# EAGLE library part MPU6000 (library MrSwirlyEyes)
MPU 6000 IMU (6DOF) The sampling rate on this IMU is slower than in the MPU6500, but it's noise sensitivity is much lower.
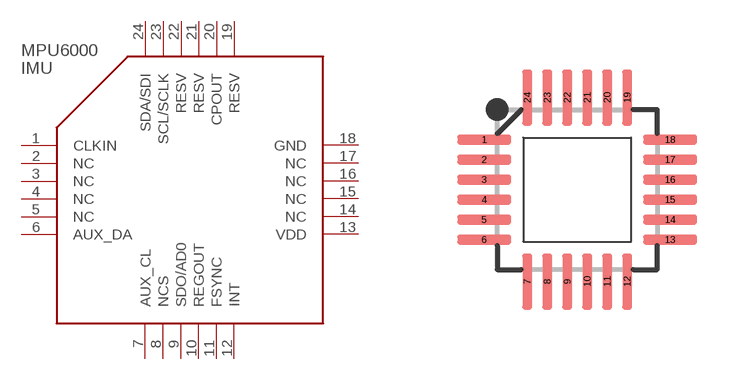
[diagram p18: symbol with the pads of MPU6000-QFN24; footprint MPU6000-QFN24]

Designator prefix IMU

## MPU6000-QFN24 (CREATOR: Kenmei; DATASHEET: http://store.invensense.com/datasheets/invensense/MPU-6050_DataSheet_V3%204.pdf; DIST: Digikey; DISTLINK: https://www.digikey.com/product-detail/en/tdk-invensense/MPU-6000/1428-1005-1-ND/4038006; DISTPN: 1428-1005-1-ND; MFR: TDK InvenSense; MPN: MPU-6000; TESTED: No; VALUE: MPU6000)  [MPU6000-QFN24]
1  CLKIN  nc
2  NC  nc
3  NC  nc
4  NC  nc
5  NC  nc
6  AUX_DA  nc
7  AUX_CL
8  NCS  pwr
9  SDO/AD0
10  REGOUT
11  FSYNC
12  INT
13  VDD  pwr
14  NC  nc
15  NC  nc
16  NC  nc
17  NC  nc
18  GND  pwr
19  RESV
20  CPOUT
21  RESV
22  RESV
23  SCL/SCLK
24  SDA/SDI

## Footprint MPU6000-QFN24 (pad centres in mm)
smd 1.35 x 0.25: 1 -2.325,1.25; 2 -2.325,0.75; 3 -2.325,0.25; 4 -2.325,-0.25; 5 -2.325,-0.75; 6 -2.325,-1.25; 13 2.325,-1.25; 14 2.325,-0.75; 15 2.325,-0.25; 16 2.325,0.25; 17 2.325,0.75; 18 2.325,1.25
smd 0.25 x 1.4: 7 -1.25,-2.3; 8 -0.75,-2.3; 9 -0.25,-2.3; 10 0.25,-2.3; 11 0.75,-2.3; 12 1.25,-2.3; 19 1.25,2.3; 20 0.75,2.3; 21 0.25,2.3; 22 -0.25,2.3; 23 -0.75,2.3; 24 -1.25,2.3